# Altium integrated library ATMEGA8L-8PU.IntLib: 1 symbol
Pins are listed as number, name and electrical type; pins without a type are passive.

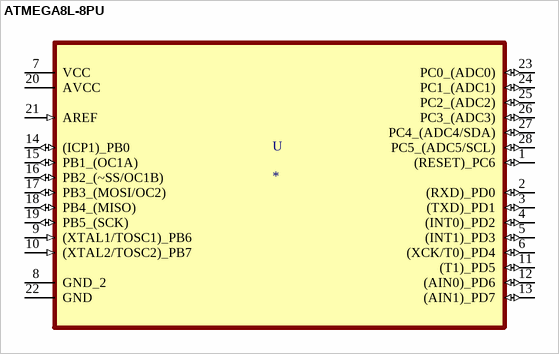
[diagram p0: symbol ATMEGA8L-8PU]

## ATMEGA8L-8PU
designator U
AVR AVRÂ® ATmega Microcontroller IC 8-Bit 8MHz 8KB _4K x 16_ FLASH 28-PDIP; MP: ATMEGA8L-8PU; MF: Microchip; Digi-Key_Part_Number: ATMEGA8L-8PU-ND; Value: *; SnapEDA_Link: https://www.snapeda.com/parts/ATMEGA8L-8PU/Microchip/view-part/652152/?ref=snap; Package: DIP-28 Microchip; Digi-Key_Purchase_URL: https://www.digikey.com/product-detail/en/microchip-technology/ATMEGA8L-8PU/ATMEGA8L-8PU-ND/739790?utm_source=snapeda&utm_medium=aggregator&utm_campaign=symbol
footprint DIP254P762X457-28
pins: 1 (RESET)_PC6 (io), 2 (RXD)_PD0 (io), 3 (TXD)_PD1 (io), 4 (INT0)_PD2 (io), 5 (INT1)_PD3 (io), 6 (XCK/T0)_PD4 (io), 7 VCC (power), 8 GND_2, 9 (XTAL1/TOSC1)_PB6 (in), 10 (XTAL2/TOSC2)_PB7 (in), 11 (T1)_PD5 (io), 12 (AIN0)_PD6 (io), 13 (AIN1)_PD7 (io), 14 (ICP1)_PB0 (io), 15 PB1_(OC1A) (io), 16 PB2_(~SS/OC1B) (io), 17 PB3_(MOSI/OC2) (io), 18 PB4_(MISO) (io), 19 PB5_(SCK) (io), 20 AVCC (power), 21 AREF (in), 22 GND, 23 PC0_(ADC0) (io), 24 PC1_(ADC1) (io), 25 PC2_(ADC2) (io), 26 PC3_(ADC3) (io), 27 PC4_(ADC4/SDA) (io), 28 PC5_(ADC5/SCL) (io)